# Altium footprint library Connector_PinHeader_1.27mm.PcbLib: 278 footprints (part 9 of 18)
Each footprint in its own frame and in the unit in brackets; x right, y up, seen from the top. Pads: shape width x height; smd on the part's side, far side on the other; paste and mask are expansions set on the pad; w line width, h text height; cw(c..) or ccw(c..) is an arc to the next point about the centre after c.
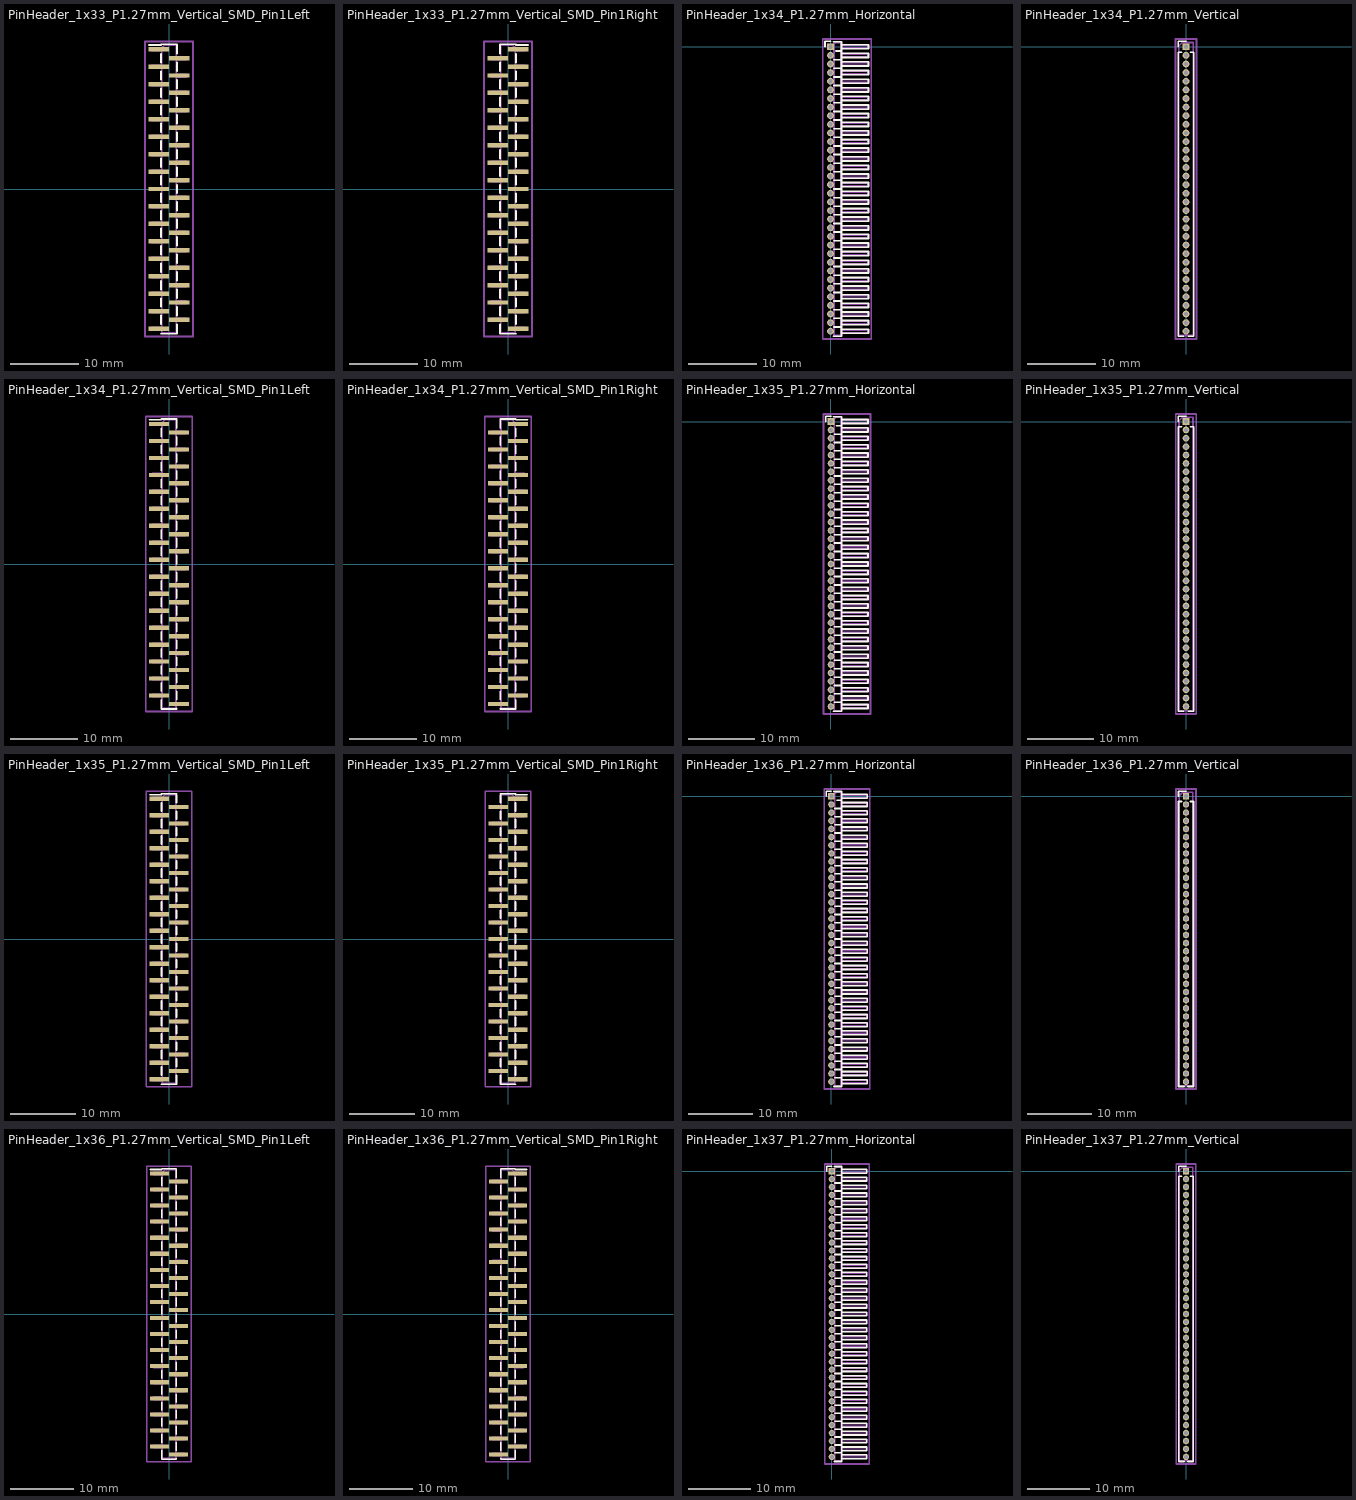
[diagram p8: the footprints below, top view; thin cyan lines are the x and y axes]

## PinHeader_1x33_P1.27mm_Vertical_SMD_Pin1Left [mm]
pads (33):
  rect 3x0.65 smd: 1(-1.5,20.32) 2(1.5,19.05) 3(-1.5,17.78) 4(1.5,16.51) 5(-1.5,15.24) 6(1.5,13.97) 7(-1.5,12.7) 8(1.5,11.43) 9(-1.5,10.16) 10(1.5,8.89) 11(-1.5,7.62) 12(1.5,6.35) 13(-1.5,5.08) 14(1.5,3.81) 15(-1.5,2.54) 16(1.5,1.27) 17(-1.5,0) 18(1.5,-1.27) 19(-1.5,-2.54) 20(1.5,-3.81) 21(-1.5,-5.08) 22(1.5,-6.35) 23(-1.5,-7.62) 24(1.5,-8.89) 25(-1.5,-10.16) 26(1.5,-11.43) 27(-1.5,-12.7) 28(1.5,-13.97) 29(-1.5,-15.24) 30(1.5,-16.51) 31(-1.5,-17.78) 32(1.5,-19.05) 33(-1.5,-20.32)
F.SilkS:
  lines w0.254: -2.94,20.955 -1.16,20.955 -1.16,21.065 1.16,21.065 ; -1.16,-21.065 1.16,-21.065 ; -1.16,-19.685 -1.16,-18.415 ; -1.16,-17.145 -1.16,-15.875 ; -1.16,-14.605 -1.16,-13.335 ; -1.16,-12.065 -1.16,-10.795 ; -1.16,-9.525 -1.16,-8.255 ; -1.16,-6.985 -1.16,-5.715 ; -1.16,-4.445 -1.16,-3.175 ; -1.16,-1.905 -1.16,-0.635 ; -1.16,0.635 -1.16,1.905 ; -1.16,3.175 -1.16,4.445 ; -1.16,5.715 -1.16,6.985 ; -1.16,8.255 -1.16,9.525 ; -1.16,10.795 -1.16,12.065 ; -1.16,13.335 -1.16,14.605 ; -1.16,15.875 -1.16,17.145 ; -1.16,18.415 -1.16,19.685 ; 1.16,-20.955 1.16,-21.065 ; 1.16,-19.685 1.16,-21.065 ; 1.16,-18.415 1.16,-17.145 ; 1.16,-15.875 1.16,-14.605 ; 1.16,-13.335 1.16,-12.065 ; 1.16,-10.795 1.16,-9.525 ; 1.16,-8.255 1.16,-6.985 ; 1.16,-5.715 1.16,-4.445 ; 1.16,-3.175 1.16,-1.905 ; 1.16,-0.635 1.16,0.635 ; 1.16,1.905 1.16,3.175 ; 1.16,4.445 1.16,5.715 ; 1.16,6.985 1.16,8.255 ; 1.16,9.525 1.16,10.795 ; 1.16,12.065 1.16,13.335 ; 1.16,14.605 1.16,15.875 ; 1.16,17.145 1.16,18.415 ; 1.16,19.685 1.16,20.955
Top Assembly:
  lines w0.254: -1.05,-20.52 -2.5,-20.52 -2.5,-20.12 -1.05,-20.12 ; -1.05,-17.98 -2.5,-17.98 -2.5,-17.58 -1.05,-17.58 ; -1.05,-15.44 -2.5,-15.44 -2.5,-15.04 -1.05,-15.04 ; -1.05,-12.9 -2.5,-12.9 -2.5,-12.5 -1.05,-12.5 ; -1.05,-10.36 -2.5,-10.36 -2.5,-9.96 -1.05,-9.96 ; -1.05,-7.82 -2.5,-7.82 -2.5,-7.42 -1.05,-7.42 ; -1.05,-5.28 -2.5,-5.28 -2.5,-4.88 -1.05,-4.88 ; -1.05,-2.74 -2.5,-2.74 -2.5,-2.34 -1.05,-2.34 ; -1.05,-0.2 -2.5,-0.2 -2.5,0.2 -1.05,0.2 ; -1.05,2.34 -2.5,2.34 -2.5,2.74 -1.05,2.74 ; -1.05,4.88 -2.5,4.88 -2.5,5.28 -1.05,5.28 ; -1.05,7.42 -2.5,7.42 -2.5,7.82 -1.05,7.82 ; -1.05,9.96 -2.5,9.96 -2.5,10.36 -1.05,10.36 ; -1.05,12.5 -2.5,12.5 -2.5,12.9 -1.05,12.9 ; -1.05,15.04 -2.5,15.04 -2.5,15.44 -1.05,15.44 ; -1.05,17.58 -2.5,17.58 -2.5,17.98 -1.05,17.98 ; -1.05,20.12 -2.5,20.12 -2.5,20.52 -1.05,20.52 ; 1.05,-19.25 2.5,-19.25 2.5,-18.85 1.05,-18.85 ; 1.05,-16.71 2.5,-16.71 2.5,-16.31 1.05,-16.31 ; 1.05,-14.17 2.5,-14.17 2.5,-13.77 1.05,-13.77 ; 1.05,-11.63 2.5,-11.63 2.5,-11.23 1.05,-11.23 ; 1.05,-9.09 2.5,-9.09 2.5,-8.69 1.05,-8.69 ; 1.05,-6.55 2.5,-6.55 2.5,-6.15 1.05,-6.15 ; 1.05,-4.01 2.5,-4.01 2.5,-3.61 1.05,-3.61 ; 1.05,-1.47 2.5,-1.47 2.5,-1.07 1.05,-1.07 ; 1.05,1.07 2.5,1.07 2.5,1.47 1.05,1.47 ; 1.05,3.61 2.5,3.61 2.5,4.01 1.05,4.01 ; 1.05,6.15 2.5,6.15 2.5,6.55 1.05,6.55 ; 1.05,8.69 2.5,8.69 2.5,9.09 1.05,9.09 ; 1.05,11.23 2.5,11.23 2.5,11.63 1.05,11.63 ; 1.05,13.77 2.5,13.77 2.5,14.17 1.05,14.17 ; 1.05,16.31 2.5,16.31 2.5,16.71 1.05,16.71 ; 1.05,18.85 2.5,18.85 2.5,19.25 1.05,19.25 ; -1.05,20.52 -1.05,-20.955 1.05,-20.955 1.05,20.955 -0.615,20.955 -1.05,20.52
  text "'.Designator'" at 0.84,-4.047 h1
Top Courtyard:
  lines w0.254: -3.5,-21.46 3.5,-21.46 3.5,21.46 -3.5,21.46 -3.5,-21.46
Top Designator:
  text ".Designator" at -7.618,-0.508 h1.52

## PinHeader_1x33_P1.27mm_Vertical_SMD_Pin1Right [mm]
pads (33):
  rect 3x0.65 smd: 1(1.5,20.32) 2(-1.5,19.05) 3(1.5,17.78) 4(-1.5,16.51) 5(1.5,15.24) 6(-1.5,13.97) 7(1.5,12.7) 8(-1.5,11.43) 9(1.5,10.16) 10(-1.5,8.89) 11(1.5,7.62) 12(-1.5,6.35) 13(1.5,5.08) 14(-1.5,3.81) 15(1.5,2.54) 16(-1.5,1.27) 17(1.5,0) 18(-1.5,-1.27) 19(1.5,-2.54) 20(-1.5,-3.81) 21(1.5,-5.08) 22(-1.5,-6.35) 23(1.5,-7.62) 24(-1.5,-8.89) 25(1.5,-10.16) 26(-1.5,-11.43) 27(1.5,-12.7) 28(-1.5,-13.97) 29(1.5,-15.24) 30(-1.5,-16.51) 31(1.5,-17.78) 32(-1.5,-19.05) 33(1.5,-20.32)
F.SilkS:
  lines w0.254: -1.16,-20.955 -1.16,-21.065 ; -1.16,-19.685 -1.16,-21.065 ; -1.16,-18.415 -1.16,-17.145 ; -1.16,-15.875 -1.16,-14.605 ; -1.16,-13.335 -1.16,-12.065 ; -1.16,-10.795 -1.16,-9.525 ; -1.16,-8.255 -1.16,-6.985 ; -1.16,-5.715 -1.16,-4.445 ; -1.16,-3.175 -1.16,-1.905 ; -1.16,-0.635 -1.16,0.635 ; -1.16,1.905 -1.16,3.175 ; -1.16,4.445 -1.16,5.715 ; -1.16,6.985 -1.16,8.255 ; -1.16,9.525 -1.16,10.795 ; -1.16,12.065 -1.16,13.335 ; -1.16,14.605 -1.16,15.875 ; -1.16,17.145 -1.16,18.415 ; -1.16,21.065 1.16,21.065 1.16,20.955 2.94,20.955 ; 1.16,-21.065 -1.16,-21.065 ; 1.16,-19.685 1.16,-18.415 ; 1.16,-17.145 1.16,-15.875 ; 1.16,-14.605 1.16,-13.335 ; 1.16,-12.065 1.16,-10.795 ; 1.16,-9.525 1.16,-8.255 ; 1.16,-6.985 1.16,-5.715 ; 1.16,-4.445 1.16,-3.175 ; 1.16,-1.905 1.16,-0.635 ; 1.16,0.635 1.16,1.905 ; 1.16,3.175 1.16,4.445 ; 1.16,5.715 1.16,6.985 ; 1.16,8.255 1.16,9.525 ; 1.16,10.795 1.16,12.065 ; 1.16,13.335 1.16,14.605 ; 1.16,15.875 1.16,17.145 ; 1.16,18.415 1.16,19.685 ; -1.16,19.685 -1.16,20.955 -1.16,19.685
Top Assembly:
  lines w0.254: -1.05,-19.25 -2.5,-19.25 -2.5,-18.85 -1.05,-18.85 ; -1.05,-16.71 -2.5,-16.71 -2.5,-16.31 -1.05,-16.31 ; -1.05,-14.17 -2.5,-14.17 -2.5,-13.77 -1.05,-13.77 ; -1.05,-11.63 -2.5,-11.63 -2.5,-11.23 -1.05,-11.23 ; -1.05,-9.09 -2.5,-9.09 -2.5,-8.69 -1.05,-8.69 ; -1.05,-6.55 -2.5,-6.55 -2.5,-6.15 -1.05,-6.15 ; -1.05,-4.01 -2.5,-4.01 -2.5,-3.61 -1.05,-3.61 ; -1.05,-1.47 -2.5,-1.47 -2.5,-1.07 -1.05,-1.07 ; -1.05,1.07 -2.5,1.07 -2.5,1.47 -1.05,1.47 ; -1.05,3.61 -2.5,3.61 -2.5,4.01 -1.05,4.01 ; -1.05,6.15 -2.5,6.15 -2.5,6.55 -1.05,6.55 ; -1.05,8.69 -2.5,8.69 -2.5,9.09 -1.05,9.09 ; -1.05,11.23 -2.5,11.23 -2.5,11.63 -1.05,11.63 ; -1.05,13.77 -2.5,13.77 -2.5,14.17 -1.05,14.17 ; -1.05,16.31 -2.5,16.31 -2.5,16.71 -1.05,16.71 ; -1.05,18.85 -2.5,18.85 -2.5,19.25 -1.05,19.25 ; 1.05,-20.52 2.5,-20.52 2.5,-20.12 1.05,-20.12 ; 1.05,-17.98 2.5,-17.98 2.5,-17.58 1.05,-17.58 ; 1.05,-15.44 2.5,-15.44 2.5,-15.04 1.05,-15.04 ; 1.05,-12.9 2.5,-12.9 2.5,-12.5 1.05,-12.5 ; 1.05,-10.36 2.5,-10.36 2.5,-9.96 1.05,-9.96 ; 1.05,-7.82 2.5,-7.82 2.5,-7.42 1.05,-7.42 ; 1.05,-5.28 2.5,-5.28 2.5,-4.88 1.05,-4.88 ; 1.05,-2.74 2.5,-2.74 2.5,-2.34 1.05,-2.34 ; 1.05,-0.2 2.5,-0.2 2.5,0.2 1.05,0.2 ; 1.05,2.34 2.5,2.34 2.5,2.74 1.05,2.74 ; 1.05,4.88 2.5,4.88 2.5,5.28 1.05,5.28 ; 1.05,7.42 2.5,7.42 2.5,7.82 1.05,7.82 ; 1.05,9.96 2.5,9.96 2.5,10.36 1.05,10.36 ; 1.05,12.5 2.5,12.5 2.5,12.9 1.05,12.9 ; 1.05,15.04 2.5,15.04 2.5,15.44 1.05,15.44 ; 1.05,17.58 2.5,17.58 2.5,17.98 1.05,17.98 ; 1.05,20.12 2.5,20.12 2.5,20.52 1.05,20.52 ; 1.05,20.52 1.05,-20.955 -1.05,-20.955 -1.05,20.955 0.615,20.955 1.05,20.52
  text "'.Designator'" at 0.84,-4.047 h1
Top Courtyard:
  lines w0.254: -3.5,-21.46 3.5,-21.46 3.5,21.46 -3.5,21.46 -3.5,-21.46
Top Designator:
  text ".Designator" at -7.618,-0.508 h1.52

## PinHeader_1x34_P1.27mm_Horizontal [mm]
pads (34):
  rect 1x1 hole 0.65: 1(0,0)
  round 1 hole 0.65: 2(0,-1.27) 3(0,-2.54) 4(0,-3.81) 5(0,-5.08) 6(0,-6.35) 7(0,-7.62) 8(0,-8.89) 9(0,-10.16) 10(0,-11.43) 11(0,-12.7) 12(0,-13.97) 13(0,-15.24) 14(0,-16.51) 15(0,-17.78) 16(0,-19.05) 17(0,-20.32) 18(0,-21.59) 19(0,-22.86) 20(0,-24.13) 21(0,-25.4) 22(0,-26.67) 23(0,-27.94) 24(0,-29.21) 25(0,-30.48) 26(0,-31.75) 27(0,-33.02) 28(0,-34.29) 29(0,-35.56) 30(0,-36.83) 31(0,-38.1) 32(0,-39.37) 33(0,-40.64) 34(0,-41.91)
F.SilkS:
  lines w0.254: -0.81,0 -0.81,0.81 0,0.81 ; 0.39,-42.655 1.61,-42.655 1.61,0.745 0.39,0.745 ; 0.503,-41.275 1.61,-41.275 ; 0.503,-40.005 1.61,-40.005 ; 0.503,-38.735 1.61,-38.735 ; 0.503,-37.465 1.61,-37.465 ; 0.503,-36.195 1.61,-36.195 ; 0.503,-34.925 1.61,-34.925 ; 0.503,-33.655 1.61,-33.655 ; 0.503,-32.385 1.61,-32.385 ; 0.503,-31.115 1.61,-31.115 ; 0.503,-29.845 1.61,-29.845 ; 0.503,-28.575 1.61,-28.575 ; 0.503,-27.305 1.61,-27.305 ; 0.503,-26.035 1.61,-26.035 ; 0.503,-24.765 1.61,-24.765 ; 0.503,-23.495 1.61,-23.495 ; 0.503,-22.225 1.61,-22.225 ; 0.503,-20.955 1.61,-20.955 ; 0.503,-19.685 1.61,-19.685 ; 0.503,-18.415 1.61,-18.415 ; 0.503,-17.145 1.61,-17.145 ; 0.503,-15.875 1.61,-15.875 ; 0.503,-14.605 1.61,-14.605 ; 0.503,-13.335 1.61,-13.335 ; 0.503,-12.065 1.61,-12.065 ; 0.503,-10.795 1.61,-10.795 ; 0.503,-9.525 1.61,-9.525 ; 0.503,-8.255 1.61,-8.255 ; 0.503,-6.985 1.61,-6.985 ; 0.503,-5.715 1.61,-5.715 ; 0.503,-4.445 1.61,-4.445 ; 0.503,-3.175 1.61,-3.175 ; 0.503,-1.905 1.61,-1.905 ; 0.81,-0.635 1.61,-0.635 ; 1.61,-42.22 5.61,-42.22 5.61,-41.6 1.61,-41.6 ; 1.61,-40.95 5.61,-40.95 5.61,-40.33 1.61,-40.33 ; 1.61,-39.68 5.61,-39.68 5.61,-39.06 1.61,-39.06 ; 1.61,-38.41 5.61,-38.41 5.61,-37.79 1.61,-37.79 ; 1.61,-37.14 5.61,-37.14 5.61,-36.52 1.61,-36.52 ; 1.61,-35.87 5.61,-35.87 5.61,-35.25 1.61,-35.25 ; 1.61,-34.6 5.61,-34.6 5.61,-33.98 1.61,-33.98 ; 1.61,-33.33 5.61,-33.33 5.61,-32.71 1.61,-32.71 ; 1.61,-32.06 5.61,-32.06 5.61,-31.44 1.61,-31.44 ; 1.61,-30.79 5.61,-30.79 5.61,-30.17 1.61,-30.17 ; 1.61,-29.52 5.61,-29.52 5.61,-28.9 1.61,-28.9 ; 1.61,-28.25 5.61,-28.25 5.61,-27.63 1.61,-27.63 ; 1.61,-26.98 5.61,-26.98 5.61,-26.36 1.61,-26.36 ; 1.61,-25.71 5.61,-25.71 5.61,-25.09 1.61,-25.09 ; 1.61,-24.44 5.61,-24.44 5.61,-23.82 1.61,-23.82 ; 1.61,-23.17 5.61,-23.17 5.61,-22.55 1.61,-22.55 ; 1.61,-21.9 5.61,-21.9 5.61,-21.28 1.61,-21.28 ; 1.61,-20.63 5.61,-20.63 5.61,-20.01 1.61,-20.01 ; 1.61,-19.36 5.61,-19.36 5.61,-18.74 1.61,-18.74 ; 1.61,-18.09 5.61,-18.09 5.61,-17.47 1.61,-17.47 ; 1.61,-16.82 5.61,-16.82 5.61,-16.2 1.61,-16.2 ; 1.61,-15.55 5.61,-15.55 5.61,-14.93 1.61,-14.93 ; 1.61,-14.28 5.61,-14.28 5.61,-13.66 1.61,-13.66 ; 1.61,-13.01 5.61,-13.01 5.61,-12.39 1.61,-12.39 ; 1.61,-11.74 5.61,-11.74 5.61,-11.12 1.61,-11.12 ; 1.61,-10.47 5.61,-10.47 5.61,-9.85 1.61,-9.85 ; 1.61,-9.2 5.61,-9.2 5.61,-8.58 1.61,-8.58 ; 1.61,-7.93 5.61,-7.93 5.61,-7.31 1.61,-7.31 ; 1.61,-6.66 5.61,-6.66 5.61,-6.04 1.61,-6.04 ; 1.61,-5.39 5.61,-5.39 5.61,-4.77 1.61,-4.77 ; 1.61,-4.12 5.61,-4.12 5.61,-3.5 1.61,-3.5 ; 1.61,-2.85 5.61,-2.85 5.61,-2.23 1.61,-2.23 ; 1.61,-1.58 5.61,-1.58 5.61,-0.96 1.61,-0.96 ; 1.61,-0.31 5.61,-0.31 5.61,0.31 1.61,0.31 1.61,-0.31
Top Assembly:
  drawing of 209 lines, arcs and shapes, not listed
  text "'.Designator'" at 1.504,-23.383 h0.6
Top Courtyard:
  lines w0.254: -1.14,-43.05 6,-43.05 6,1.14 -1.14,1.14 -1.14,-43.05
Top Designator:
  text ".Designator" at -5.188,-21.463 h1.52

## PinHeader_1x34_P1.27mm_Vertical [mm]
pads (34):
  rect 1x1 hole 0.65: 1(0,0)
  round 1 hole 0.65: 2(0,-1.27) 3(0,-2.54) 4(0,-3.81) 5(0,-5.08) 6(0,-6.35) 7(0,-7.62) 8(0,-8.89) 9(0,-10.16) 10(0,-11.43) 11(0,-12.7) 12(0,-13.97) 13(0,-15.24) 14(0,-16.51) 15(0,-17.78) 16(0,-19.05) 17(0,-20.32) 18(0,-21.59) 19(0,-22.86) 20(0,-24.13) 21(0,-25.4) 22(0,-26.67) 23(0,-27.94) 24(0,-29.21) 25(0,-30.48) 26(0,-31.75) 27(0,-33.02) 28(0,-34.29) 29(0,-35.56) 30(0,-36.83) 31(0,-38.1) 32(0,-39.37) 33(0,-40.64) 34(0,-41.91)
F.SilkS:
  lines w0.254: -1.16,0 -1.16,0.81 0,0.81 ; -0.667,-0.81 -1.16,-0.81 -1.16,-42.655 -0.318,-42.655 ; 0.318,-42.655 1.16,-42.655 1.16,-0.81 0.667,-0.81
Top Assembly:
  lines w0.254: -1.05,-42.545 1.05,-42.545 1.05,0.635 -0.525,0.635 -1.05,0.11 -1.05,-42.545
  text "'.Designator'" at 0.84,-25.002 h1
Top Courtyard:
  lines w0.254: -1.55,-43.05 1.55,-43.05 1.55,1.14 -1.55,1.14 -1.55,-43.05
Top Designator:
  text ".Designator" at -7.618,-21.463 h1.52

## PinHeader_1x34_P1.27mm_Vertical_SMD_Pin1Left [mm]
pads (34):
  rect 3x0.65 smd: 1(-1.5,20.955) 2(1.5,19.685) 3(-1.5,18.415) 4(1.5,17.145) 5(-1.5,15.875) 6(1.5,14.605) 7(-1.5,13.335) 8(1.5,12.065) 9(-1.5,10.795) 10(1.5,9.525) 11(-1.5,8.255) 12(1.5,6.985) 13(-1.5,5.715) 14(1.5,4.445) 15(-1.5,3.175) 16(1.5,1.905) 17(-1.5,0.635) 18(1.5,-0.635) 19(-1.5,-1.905) 20(1.5,-3.175) 21(-1.5,-4.445) 22(1.5,-5.715) 23(-1.5,-6.985) 24(1.5,-8.255) 25(-1.5,-9.525) 26(1.5,-10.795) 27(-1.5,-12.065) 28(1.5,-13.335) 29(-1.5,-14.605) 30(1.5,-15.875) 31(-1.5,-17.145) 32(1.5,-18.415) 33(-1.5,-19.685) 34(1.5,-20.955)
F.SilkS:
  lines w0.254: -2.94,21.59 -1.16,21.59 -1.16,21.7 1.16,21.7 ; -1.16,-20.32 -1.16,-21.7 1.16,-21.7 1.16,-21.59 ; -1.16,-19.05 -1.16,-17.78 ; -1.16,-16.51 -1.16,-15.24 ; -1.16,-13.97 -1.16,-12.7 ; -1.16,-11.43 -1.16,-10.16 ; -1.16,-8.89 -1.16,-7.62 ; -1.16,-6.35 -1.16,-5.08 ; -1.16,-3.81 -1.16,-2.54 ; -1.16,-1.27 -1.16,0 ; -1.16,1.27 -1.16,2.54 ; -1.16,3.81 -1.16,5.08 ; -1.16,6.35 -1.16,7.62 ; -1.16,8.89 -1.16,10.16 ; -1.16,11.43 -1.16,12.7 ; -1.16,13.97 -1.16,15.24 ; -1.16,16.51 -1.16,17.78 ; -1.16,19.05 -1.16,20.32 ; 1.16,-20.32 1.16,-19.05 ; 1.16,-17.78 1.16,-16.51 ; 1.16,-15.24 1.16,-13.97 ; 1.16,-12.7 1.16,-11.43 ; 1.16,-10.16 1.16,-8.89 ; 1.16,-7.62 1.16,-6.35 ; 1.16,-5.08 1.16,-3.81 ; 1.16,-2.54 1.16,-1.27 ; 1.16,0 1.16,1.27 ; 1.16,2.54 1.16,3.81 ; 1.16,5.08 1.16,6.35 ; 1.16,7.62 1.16,8.89 ; 1.16,10.16 1.16,11.43 ; 1.16,12.7 1.16,13.97 ; 1.16,15.24 1.16,16.51 ; 1.16,17.78 1.16,19.05 ; 1.16,20.32 1.16,21.59
Top Assembly:
  lines w0.254: -1.05,-19.885 -2.5,-19.885 -2.5,-19.485 -1.05,-19.485 ; -1.05,-17.345 -2.5,-17.345 -2.5,-16.945 -1.05,-16.945 ; -1.05,-14.805 -2.5,-14.805 -2.5,-14.405 -1.05,-14.405 ; -1.05,-12.265 -2.5,-12.265 -2.5,-11.865 -1.05,-11.865 ; -1.05,-9.725 -2.5,-9.725 -2.5,-9.325 -1.05,-9.325 ; -1.05,-7.185 -2.5,-7.185 -2.5,-6.785 -1.05,-6.785 ; -1.05,-4.645 -2.5,-4.645 -2.5,-4.245 -1.05,-4.245 ; -1.05,-2.105 -2.5,-2.105 -2.5,-1.705 -1.05,-1.705 ; -1.05,0.435 -2.5,0.435 -2.5,0.835 -1.05,0.835 ; -1.05,2.975 -2.5,2.975 -2.5,3.375 -1.05,3.375 ; -1.05,5.515 -2.5,5.515 -2.5,5.915 -1.05,5.915 ; -1.05,8.055 -2.5,8.055 -2.5,8.455 -1.05,8.455 ; -1.05,10.595 -2.5,10.595 -2.5,10.995 -1.05,10.995 ; -1.05,13.135 -2.5,13.135 -2.5,13.535 -1.05,13.535 ; -1.05,15.675 -2.5,15.675 -2.5,16.075 -1.05,16.075 ; -1.05,18.215 -2.5,18.215 -2.5,18.615 -1.05,18.615 ; -1.05,20.755 -2.5,20.755 -2.5,21.155 -1.05,21.155 ; 1.05,-21.155 2.5,-21.155 2.5,-20.755 1.05,-20.755 ; 1.05,-18.615 2.5,-18.615 2.5,-18.215 1.05,-18.215 ; 1.05,-16.075 2.5,-16.075 2.5,-15.675 1.05,-15.675 ; 1.05,-13.535 2.5,-13.535 2.5,-13.135 1.05,-13.135 ; 1.05,-10.995 2.5,-10.995 2.5,-10.595 1.05,-10.595 ; 1.05,-8.455 2.5,-8.455 2.5,-8.055 1.05,-8.055 ; 1.05,-5.915 2.5,-5.915 2.5,-5.515 1.05,-5.515 ; 1.05,-3.375 2.5,-3.375 2.5,-2.975 1.05,-2.975 ; 1.05,-0.835 2.5,-0.835 2.5,-0.435 1.05,-0.435 ; 1.05,1.705 2.5,1.705 2.5,2.105 1.05,2.105 ; 1.05,4.245 2.5,4.245 2.5,4.645 1.05,4.645 ; 1.05,6.785 2.5,6.785 2.5,7.185 1.05,7.185 ; 1.05,9.325 2.5,9.325 2.5,9.725 1.05,9.725 ; 1.05,11.865 2.5,11.865 2.5,12.265 1.05,12.265 ; 1.05,14.405 2.5,14.405 2.5,14.805 1.05,14.805 ; 1.05,16.945 2.5,16.945 2.5,17.345 1.05,17.345 ; 1.05,19.485 2.5,19.485 2.5,19.885 1.05,19.885 ; -1.05,21.155 -1.05,-21.59 1.05,-21.59 1.05,21.59 -0.615,21.59 -1.05,21.155
  text "'.Designator'" at 0.84,-4.047 h1
Top Courtyard:
  lines w0.254: -3.5,-22.09 3.5,-22.09 3.5,22.09 -3.5,22.09 -3.5,-22.09
Top Designator:
  text ".Designator" at -7.618,-0.508 h1.52

## PinHeader_1x34_P1.27mm_Vertical_SMD_Pin1Right [mm]
pads (34):
  rect 3x0.65 smd: 1(1.5,20.955) 2(-1.5,19.685) 3(1.5,18.415) 4(-1.5,17.145) 5(1.5,15.875) 6(-1.5,14.605) 7(1.5,13.335) 8(-1.5,12.065) 9(1.5,10.795) 10(-1.5,9.525) 11(1.5,8.255) 12(-1.5,6.985) 13(1.5,5.715) 14(-1.5,4.445) 15(1.5,3.175) 16(-1.5,1.905) 17(1.5,0.635) 18(-1.5,-0.635) 19(1.5,-1.905) 20(-1.5,-3.175) 21(1.5,-4.445) 22(-1.5,-5.715) 23(1.5,-6.985) 24(-1.5,-8.255) 25(1.5,-9.525) 26(-1.5,-10.795) 27(1.5,-12.065) 28(-1.5,-13.335) 29(1.5,-14.605) 30(-1.5,-15.875) 31(1.5,-17.145) 32(-1.5,-18.415) 33(1.5,-19.685) 34(-1.5,-20.955)
F.SilkS:
  lines w0.254: -1.16,-21.59 -1.16,-21.7 1.16,-21.7 1.16,-20.32 ; -1.16,-20.32 -1.16,-19.05 ; -1.16,-17.78 -1.16,-16.51 ; -1.16,-15.24 -1.16,-13.97 ; -1.16,-12.7 -1.16,-11.43 ; -1.16,-10.16 -1.16,-8.89 ; -1.16,-7.62 -1.16,-6.35 ; -1.16,-5.08 -1.16,-3.81 ; -1.16,-2.54 -1.16,-1.27 ; -1.16,0 -1.16,1.27 ; -1.16,2.54 -1.16,3.81 ; -1.16,5.08 -1.16,6.35 ; -1.16,7.62 -1.16,8.89 ; -1.16,10.16 -1.16,11.43 ; -1.16,12.7 -1.16,13.97 ; -1.16,15.24 -1.16,16.51 ; -1.16,17.78 -1.16,19.05 ; -1.16,21.7 1.16,21.7 1.16,21.59 2.94,21.59 ; 1.16,-19.05 1.16,-17.78 ; 1.16,-16.51 1.16,-15.24 ; 1.16,-13.97 1.16,-12.7 ; 1.16,-11.43 1.16,-10.16 ; 1.16,-8.89 1.16,-7.62 ; 1.16,-6.35 1.16,-5.08 ; 1.16,-3.81 1.16,-2.54 ; 1.16,-1.27 1.16,0 ; 1.16,1.27 1.16,2.54 ; 1.16,3.81 1.16,5.08 ; 1.16,6.35 1.16,7.62 ; 1.16,8.89 1.16,10.16 ; 1.16,11.43 1.16,12.7 ; 1.16,13.97 1.16,15.24 ; 1.16,16.51 1.16,17.78 ; 1.16,19.05 1.16,20.32 ; -1.16,20.32 -1.16,21.59 -1.16,20.32
Top Assembly:
  lines w0.254: -1.05,-21.155 -2.5,-21.155 -2.5,-20.755 -1.05,-20.755 ; -1.05,-18.615 -2.5,-18.615 -2.5,-18.215 -1.05,-18.215 ; -1.05,-16.075 -2.5,-16.075 -2.5,-15.675 -1.05,-15.675 ; -1.05,-13.535 -2.5,-13.535 -2.5,-13.135 -1.05,-13.135 ; -1.05,-10.995 -2.5,-10.995 -2.5,-10.595 -1.05,-10.595 ; -1.05,-8.455 -2.5,-8.455 -2.5,-8.055 -1.05,-8.055 ; -1.05,-5.915 -2.5,-5.915 -2.5,-5.515 -1.05,-5.515 ; -1.05,-3.375 -2.5,-3.375 -2.5,-2.975 -1.05,-2.975 ; -1.05,-0.835 -2.5,-0.835 -2.5,-0.435 -1.05,-0.435 ; -1.05,1.705 -2.5,1.705 -2.5,2.105 -1.05,2.105 ; -1.05,4.245 -2.5,4.245 -2.5,4.645 -1.05,4.645 ; -1.05,6.785 -2.5,6.785 -2.5,7.185 -1.05,7.185 ; -1.05,9.325 -2.5,9.325 -2.5,9.725 -1.05,9.725 ; -1.05,11.865 -2.5,11.865 -2.5,12.265 -1.05,12.265 ; -1.05,14.405 -2.5,14.405 -2.5,14.805 -1.05,14.805 ; -1.05,16.945 -2.5,16.945 -2.5,17.345 -1.05,17.345 ; -1.05,19.485 -2.5,19.485 -2.5,19.885 -1.05,19.885 ; 1.05,-19.885 2.5,-19.885 2.5,-19.485 1.05,-19.485 ; 1.05,-17.345 2.5,-17.345 2.5,-16.945 1.05,-16.945 ; 1.05,-14.805 2.5,-14.805 2.5,-14.405 1.05,-14.405 ; 1.05,-12.265 2.5,-12.265 2.5,-11.865 1.05,-11.865 ; 1.05,-9.725 2.5,-9.725 2.5,-9.325 1.05,-9.325 ; 1.05,-7.185 2.5,-7.185 2.5,-6.785 1.05,-6.785 ; 1.05,-4.645 2.5,-4.645 2.5,-4.245 1.05,-4.245 ; 1.05,-2.105 2.5,-2.105 2.5,-1.705 1.05,-1.705 ; 1.05,0.435 2.5,0.435 2.5,0.835 1.05,0.835 ; 1.05,2.975 2.5,2.975 2.5,3.375 1.05,3.375 ; 1.05,5.515 2.5,5.515 2.5,5.915 1.05,5.915 ; 1.05,8.055 2.5,8.055 2.5,8.455 1.05,8.455 ; 1.05,10.595 2.5,10.595 2.5,10.995 1.05,10.995 ; 1.05,13.135 2.5,13.135 2.5,13.535 1.05,13.535 ; 1.05,15.675 2.5,15.675 2.5,16.075 1.05,16.075 ; 1.05,18.215 2.5,18.215 2.5,18.615 1.05,18.615 ; 1.05,20.755 2.5,20.755 2.5,21.155 1.05,21.155 ; 1.05,21.155 1.05,-21.59 -1.05,-21.59 -1.05,21.59 0.615,21.59 1.05,21.155
  text "'.Designator'" at 0.84,-4.047 h1
Top Courtyard:
  lines w0.254: -3.5,-22.09 3.5,-22.09 3.5,22.09 -3.5,22.09 -3.5,-22.09
Top Designator:
  text ".Designator" at -7.618,-0.508 h1.52

## PinHeader_1x35_P1.27mm_Horizontal [mm]
pads (35):
  rect 1x1 hole 0.65: 1(0,0)
  round 1 hole 0.65: 2(0,-1.27) 3(0,-2.54) 4(0,-3.81) 5(0,-5.08) 6(0,-6.35) 7(0,-7.62) 8(0,-8.89) 9(0,-10.16) 10(0,-11.43) 11(0,-12.7) 12(0,-13.97) 13(0,-15.24) 14(0,-16.51) 15(0,-17.78) 16(0,-19.05) 17(0,-20.32) 18(0,-21.59) 19(0,-22.86) 20(0,-24.13) 21(0,-25.4) 22(0,-26.67) 23(0,-27.94) 24(0,-29.21) 25(0,-30.48) 26(0,-31.75) 27(0,-33.02) 28(0,-34.29) 29(0,-35.56) 30(0,-36.83) 31(0,-38.1) 32(0,-39.37) 33(0,-40.64) 34(0,-41.91) 35(0,-43.18)
F.SilkS:
  lines w0.254: -0.81,0 -0.81,0.81 0,0.81 ; 0.39,-43.925 1.61,-43.925 1.61,0.745 0.39,0.745 ; 0.503,-42.545 1.61,-42.545 ; 0.503,-41.275 1.61,-41.275 ; 0.503,-40.005 1.61,-40.005 ; 0.503,-38.735 1.61,-38.735 ; 0.503,-37.465 1.61,-37.465 ; 0.503,-36.195 1.61,-36.195 ; 0.503,-34.925 1.61,-34.925 ; 0.503,-33.655 1.61,-33.655 ; 0.503,-32.385 1.61,-32.385 ; 0.503,-31.115 1.61,-31.115 ; 0.503,-29.845 1.61,-29.845 ; 0.503,-28.575 1.61,-28.575 ; 0.503,-27.305 1.61,-27.305 ; 0.503,-26.035 1.61,-26.035 ; 0.503,-24.765 1.61,-24.765 ; 0.503,-23.495 1.61,-23.495 ; 0.503,-22.225 1.61,-22.225 ; 0.503,-20.955 1.61,-20.955 ; 0.503,-19.685 1.61,-19.685 ; 0.503,-18.415 1.61,-18.415 ; 0.503,-17.145 1.61,-17.145 ; 0.503,-15.875 1.61,-15.875 ; 0.503,-14.605 1.61,-14.605 ; 0.503,-13.335 1.61,-13.335 ; 0.503,-12.065 1.61,-12.065 ; 0.503,-10.795 1.61,-10.795 ; 0.503,-9.525 1.61,-9.525 ; 0.503,-8.255 1.61,-8.255 ; 0.503,-6.985 1.61,-6.985 ; 0.503,-5.715 1.61,-5.715 ; 0.503,-4.445 1.61,-4.445 ; 0.503,-3.175 1.61,-3.175 ; 0.503,-1.905 1.61,-1.905 ; 0.81,-0.635 1.61,-0.635 ; 1.61,-43.49 5.61,-43.49 5.61,-42.87 1.61,-42.87 ; 1.61,-42.22 5.61,-42.22 5.61,-41.6 1.61,-41.6 ; 1.61,-40.95 5.61,-40.95 5.61,-40.33 1.61,-40.33 ; 1.61,-39.68 5.61,-39.68 5.61,-39.06 1.61,-39.06 ; 1.61,-38.41 5.61,-38.41 5.61,-37.79 1.61,-37.79 ; 1.61,-37.14 5.61,-37.14 5.61,-36.52 1.61,-36.52 ; 1.61,-35.87 5.61,-35.87 5.61,-35.25 1.61,-35.25 ; 1.61,-34.6 5.61,-34.6 5.61,-33.98 1.61,-33.98 ; 1.61,-33.33 5.61,-33.33 5.61,-32.71 1.61,-32.71 ; 1.61,-32.06 5.61,-32.06 5.61,-31.44 1.61,-31.44 ; 1.61,-30.79 5.61,-30.79 5.61,-30.17 1.61,-30.17 ; 1.61,-29.52 5.61,-29.52 5.61,-28.9 1.61,-28.9 ; 1.61,-28.25 5.61,-28.25 5.61,-27.63 1.61,-27.63 ; 1.61,-26.98 5.61,-26.98 5.61,-26.36 1.61,-26.36 ; 1.61,-25.71 5.61,-25.71 5.61,-25.09 1.61,-25.09 ; 1.61,-24.44 5.61,-24.44 5.61,-23.82 1.61,-23.82 ; 1.61,-23.17 5.61,-23.17 5.61,-22.55 1.61,-22.55 ; 1.61,-21.9 5.61,-21.9 5.61,-21.28 1.61,-21.28 ; 1.61,-20.63 5.61,-20.63 5.61,-20.01 1.61,-20.01 ; 1.61,-19.36 5.61,-19.36 5.61,-18.74 1.61,-18.74 ; 1.61,-18.09 5.61,-18.09 5.61,-17.47 1.61,-17.47 ; 1.61,-16.82 5.61,-16.82 5.61,-16.2 1.61,-16.2 ; 1.61,-15.55 5.61,-15.55 5.61,-14.93 1.61,-14.93 ; 1.61,-14.28 5.61,-14.28 5.61,-13.66 1.61,-13.66 ; 1.61,-13.01 5.61,-13.01 5.61,-12.39 1.61,-12.39 ; 1.61,-11.74 5.61,-11.74 5.61,-11.12 1.61,-11.12 ; 1.61,-10.47 5.61,-10.47 5.61,-9.85 1.61,-9.85 ; 1.61,-9.2 5.61,-9.2 5.61,-8.58 1.61,-8.58 ; 1.61,-7.93 5.61,-7.93 5.61,-7.31 1.61,-7.31 ; 1.61,-6.66 5.61,-6.66 5.61,-6.04 1.61,-6.04 ; 1.61,-5.39 5.61,-5.39 5.61,-4.77 1.61,-4.77 ; 1.61,-4.12 5.61,-4.12 5.61,-3.5 1.61,-3.5 ; 1.61,-2.85 5.61,-2.85 5.61,-2.23 1.61,-2.23 ; 1.61,-1.58 5.61,-1.58 5.61,-0.96 1.61,-0.96 ; 1.61,-0.31 5.61,-0.31 5.61,0.31 1.61,0.31 1.61,-0.31
Top Assembly:
  drawing of 215 lines, arcs and shapes, not listed
  text "'.Designator'" at 1.504,-24.018 h0.6
Top Courtyard:
  lines w0.254: -1.14,-44.32 6,-44.32 6,1.14 -1.14,1.14 -1.14,-44.32
Top Designator:
  text ".Designator" at -5.188,-22.098 h1.52

## PinHeader_1x35_P1.27mm_Vertical [mm]
pads (35):
  rect 1x1 hole 0.65: 1(0,0)
  round 1 hole 0.65: 2(0,-1.27) 3(0,-2.54) 4(0,-3.81) 5(0,-5.08) 6(0,-6.35) 7(0,-7.62) 8(0,-8.89) 9(0,-10.16) 10(0,-11.43) 11(0,-12.7) 12(0,-13.97) 13(0,-15.24) 14(0,-16.51) 15(0,-17.78) 16(0,-19.05) 17(0,-20.32) 18(0,-21.59) 19(0,-22.86) 20(0,-24.13) 21(0,-25.4) 22(0,-26.67) 23(0,-27.94) 24(0,-29.21) 25(0,-30.48) 26(0,-31.75) 27(0,-33.02) 28(0,-34.29) 29(0,-35.56) 30(0,-36.83) 31(0,-38.1) 32(0,-39.37) 33(0,-40.64) 34(0,-41.91) 35(0,-43.18)
F.SilkS:
  lines w0.254: -1.16,0 -1.16,0.81 0,0.81 ; -0.667,-0.81 -1.16,-0.81 -1.16,-43.925 -0.318,-43.925 ; 0.318,-43.925 1.16,-43.925 1.16,-0.81 0.667,-0.81
Top Assembly:
  lines w0.254: -1.05,-43.815 1.05,-43.815 1.05,0.635 -0.525,0.635 -1.05,0.11 -1.05,-43.815
  text "'.Designator'" at 0.84,-25.637 h1
Top Courtyard:
  lines w0.254: -1.55,-44.32 1.55,-44.32 1.55,1.14 -1.55,1.14 -1.55,-44.32
Top Designator:
  text ".Designator" at -7.618,-22.098 h1.52

## PinHeader_1x35_P1.27mm_Vertical_SMD_Pin1Left [mm]
pads (35):
  rect 3x0.65 smd: 1(-1.5,21.59) 2(1.5,20.32) 3(-1.5,19.05) 4(1.5,17.78) 5(-1.5,16.51) 6(1.5,15.24) 7(-1.5,13.97) 8(1.5,12.7) 9(-1.5,11.43) 10(1.5,10.16) 11(-1.5,8.89) 12(1.5,7.62) 13(-1.5,6.35) 14(1.5,5.08) 15(-1.5,3.81) 16(1.5,2.54) 17(-1.5,1.27) 18(1.5,0) 19(-1.5,-1.27) 20(1.5,-2.54) 21(-1.5,-3.81) 22(1.5,-5.08) 23(-1.5,-6.35) 24(1.5,-7.62) 25(-1.5,-8.89) 26(1.5,-10.16) 27(-1.5,-11.43) 28(1.5,-12.7) 29(-1.5,-13.97) 30(1.5,-15.24) 31(-1.5,-16.51) 32(1.5,-17.78) 33(-1.5,-19.05) 34(1.5,-20.32) 35(-1.5,-21.59)
F.SilkS:
  lines w0.254: -2.94,22.225 -1.16,22.225 -1.16,22.335 1.16,22.335 ; -1.16,-22.335 1.16,-22.335 ; -1.16,-20.955 -1.16,-19.685 ; -1.16,-18.415 -1.16,-17.145 ; -1.16,-15.875 -1.16,-14.605 ; -1.16,-13.335 -1.16,-12.065 ; -1.16,-10.795 -1.16,-9.525 ; -1.16,-8.255 -1.16,-6.985 ; -1.16,-5.715 -1.16,-4.445 ; -1.16,-3.175 -1.16,-1.905 ; -1.16,-0.635 -1.16,0.635 ; -1.16,1.905 -1.16,3.175 ; -1.16,4.445 -1.16,5.715 ; -1.16,6.985 -1.16,8.255 ; -1.16,9.525 -1.16,10.795 ; -1.16,12.065 -1.16,13.335 ; -1.16,14.605 -1.16,15.875 ; -1.16,17.145 -1.16,18.415 ; -1.16,19.685 -1.16,20.955 ; 1.16,-22.225 1.16,-22.335 ; 1.16,-20.955 1.16,-22.335 ; 1.16,-19.685 1.16,-18.415 ; 1.16,-17.145 1.16,-15.875 ; 1.16,-14.605 1.16,-13.335 ; 1.16,-12.065 1.16,-10.795 ; 1.16,-9.525 1.16,-8.255 ; 1.16,-6.985 1.16,-5.715 ; 1.16,-4.445 1.16,-3.175 ; 1.16,-1.905 1.16,-0.635 ; 1.16,0.635 1.16,1.905 ; 1.16,3.175 1.16,4.445 ; 1.16,5.715 1.16,6.985 ; 1.16,8.255 1.16,9.525 ; 1.16,10.795 1.16,12.065 ; 1.16,13.335 1.16,14.605 ; 1.16,15.875 1.16,17.145 ; 1.16,18.415 1.16,19.685 ; 1.16,20.955 1.16,22.225
Top Assembly:
  lines w0.254: -1.05,-21.79 -2.5,-21.79 -2.5,-21.39 -1.05,-21.39 ; -1.05,-19.25 -2.5,-19.25 -2.5,-18.85 -1.05,-18.85 ; -1.05,-16.71 -2.5,-16.71 -2.5,-16.31 -1.05,-16.31 ; -1.05,-14.17 -2.5,-14.17 -2.5,-13.77 -1.05,-13.77 ; -1.05,-11.63 -2.5,-11.63 -2.5,-11.23 -1.05,-11.23 ; -1.05,-9.09 -2.5,-9.09 -2.5,-8.69 -1.05,-8.69 ; -1.05,-6.55 -2.5,-6.55 -2.5,-6.15 -1.05,-6.15 ; -1.05,-4.01 -2.5,-4.01 -2.5,-3.61 -1.05,-3.61 ; -1.05,-1.47 -2.5,-1.47 -2.5,-1.07 -1.05,-1.07 ; -1.05,1.07 -2.5,1.07 -2.5,1.47 -1.05,1.47 ; -1.05,3.61 -2.5,3.61 -2.5,4.01 -1.05,4.01 ; -1.05,6.15 -2.5,6.15 -2.5,6.55 -1.05,6.55 ; -1.05,8.69 -2.5,8.69 -2.5,9.09 -1.05,9.09 ; -1.05,11.23 -2.5,11.23 -2.5,11.63 -1.05,11.63 ; -1.05,13.77 -2.5,13.77 -2.5,14.17 -1.05,14.17 ; -1.05,16.31 -2.5,16.31 -2.5,16.71 -1.05,16.71 ; -1.05,18.85 -2.5,18.85 -2.5,19.25 -1.05,19.25 ; -1.05,21.39 -2.5,21.39 -2.5,21.79 -1.05,21.79 ; 1.05,-20.52 2.5,-20.52 2.5,-20.12 1.05,-20.12 ; 1.05,-17.98 2.5,-17.98 2.5,-17.58 1.05,-17.58 ; 1.05,-15.44 2.5,-15.44 2.5,-15.04 1.05,-15.04 ; 1.05,-12.9 2.5,-12.9 2.5,-12.5 1.05,-12.5 ; 1.05,-10.36 2.5,-10.36 2.5,-9.96 1.05,-9.96 ; 1.05,-7.82 2.5,-7.82 2.5,-7.42 1.05,-7.42 ; 1.05,-5.28 2.5,-5.28 2.5,-4.88 1.05,-4.88 ; 1.05,-2.74 2.5,-2.74 2.5,-2.34 1.05,-2.34 ; 1.05,-0.2 2.5,-0.2 2.5,0.2 1.05,0.2 ; 1.05,2.34 2.5,2.34 2.5,2.74 1.05,2.74 ; 1.05,4.88 2.5,4.88 2.5,5.28 1.05,5.28 ; 1.05,7.42 2.5,7.42 2.5,7.82 1.05,7.82 ; 1.05,9.96 2.5,9.96 2.5,10.36 1.05,10.36 ; 1.05,12.5 2.5,12.5 2.5,12.9 1.05,12.9 ; 1.05,15.04 2.5,15.04 2.5,15.44 1.05,15.44 ; 1.05,17.58 2.5,17.58 2.5,17.98 1.05,17.98 ; 1.05,20.12 2.5,20.12 2.5,20.52 1.05,20.52 ; -1.05,21.79 -1.05,-22.225 1.05,-22.225 1.05,22.225 -0.615,22.225 -1.05,21.79
  text "'.Designator'" at 0.84,-4.047 h1
Top Courtyard:
  lines w0.254: -3.5,-22.73 3.5,-22.73 3.5,22.73 -3.5,22.73 -3.5,-22.73
Top Designator:
  text ".Designator" at -7.618,-0.508 h1.52

## PinHeader_1x35_P1.27mm_Vertical_SMD_Pin1Right [mm]
pads (35):
  rect 3x0.65 smd: 1(1.5,21.59) 2(-1.5,20.32) 3(1.5,19.05) 4(-1.5,17.78) 5(1.5,16.51) 6(-1.5,15.24) 7(1.5,13.97) 8(-1.5,12.7) 9(1.5,11.43) 10(-1.5,10.16) 11(1.5,8.89) 12(-1.5,7.62) 13(1.5,6.35) 14(-1.5,5.08) 15(1.5,3.81) 16(-1.5,2.54) 17(1.5,1.27) 18(-1.5,0) 19(1.5,-1.27) 20(-1.5,-2.54) 21(1.5,-3.81) 22(-1.5,-5.08) 23(1.5,-6.35) 24(-1.5,-7.62) 25(1.5,-8.89) 26(-1.5,-10.16) 27(1.5,-11.43) 28(-1.5,-12.7) 29(1.5,-13.97) 30(-1.5,-15.24) 31(1.5,-16.51) 32(-1.5,-17.78) 33(1.5,-19.05) 34(-1.5,-20.32) 35(1.5,-21.59)
F.SilkS:
  lines w0.254: -1.16,-22.225 -1.16,-22.335 ; -1.16,-20.955 -1.16,-22.335 ; -1.16,-19.685 -1.16,-18.415 ; -1.16,-17.145 -1.16,-15.875 ; -1.16,-14.605 -1.16,-13.335 ; -1.16,-12.065 -1.16,-10.795 ; -1.16,-9.525 -1.16,-8.255 ; -1.16,-6.985 -1.16,-5.715 ; -1.16,-4.445 -1.16,-3.175 ; -1.16,-1.905 -1.16,-0.635 ; -1.16,0.635 -1.16,1.905 ; -1.16,3.175 -1.16,4.445 ; -1.16,5.715 -1.16,6.985 ; -1.16,8.255 -1.16,9.525 ; -1.16,10.795 -1.16,12.065 ; -1.16,13.335 -1.16,14.605 ; -1.16,15.875 -1.16,17.145 ; -1.16,18.415 -1.16,19.685 ; -1.16,22.335 1.16,22.335 1.16,22.225 2.94,22.225 ; 1.16,-22.335 -1.16,-22.335 ; 1.16,-20.955 1.16,-19.685 ; 1.16,-18.415 1.16,-17.145 ; 1.16,-15.875 1.16,-14.605 ; 1.16,-13.335 1.16,-12.065 ; 1.16,-10.795 1.16,-9.525 ; 1.16,-8.255 1.16,-6.985 ; 1.16,-5.715 1.16,-4.445 ; 1.16,-3.175 1.16,-1.905 ; 1.16,-0.635 1.16,0.635 ; 1.16,1.905 1.16,3.175 ; 1.16,4.445 1.16,5.715 ; 1.16,6.985 1.16,8.255 ; 1.16,9.525 1.16,10.795 ; 1.16,12.065 1.16,13.335 ; 1.16,14.605 1.16,15.875 ; 1.16,17.145 1.16,18.415 ; 1.16,19.685 1.16,20.955 ; -1.16,20.955 -1.16,22.225 -1.16,20.955
Top Assembly:
  lines w0.254: -1.05,-20.52 -2.5,-20.52 -2.5,-20.12 -1.05,-20.12 ; -1.05,-17.98 -2.5,-17.98 -2.5,-17.58 -1.05,-17.58 ; -1.05,-15.44 -2.5,-15.44 -2.5,-15.04 -1.05,-15.04 ; -1.05,-12.9 -2.5,-12.9 -2.5,-12.5 -1.05,-12.5 ; -1.05,-10.36 -2.5,-10.36 -2.5,-9.96 -1.05,-9.96 ; -1.05,-7.82 -2.5,-7.82 -2.5,-7.42 -1.05,-7.42 ; -1.05,-5.28 -2.5,-5.28 -2.5,-4.88 -1.05,-4.88 ; -1.05,-2.74 -2.5,-2.74 -2.5,-2.34 -1.05,-2.34 ; -1.05,-0.2 -2.5,-0.2 -2.5,0.2 -1.05,0.2 ; -1.05,2.34 -2.5,2.34 -2.5,2.74 -1.05,2.74 ; -1.05,4.88 -2.5,4.88 -2.5,5.28 -1.05,5.28 ; -1.05,7.42 -2.5,7.42 -2.5,7.82 -1.05,7.82 ; -1.05,9.96 -2.5,9.96 -2.5,10.36 -1.05,10.36 ; -1.05,12.5 -2.5,12.5 -2.5,12.9 -1.05,12.9 ; -1.05,15.04 -2.5,15.04 -2.5,15.44 -1.05,15.44 ; -1.05,17.58 -2.5,17.58 -2.5,17.98 -1.05,17.98 ; -1.05,20.12 -2.5,20.12 -2.5,20.52 -1.05,20.52 ; 1.05,-21.79 2.5,-21.79 2.5,-21.39 1.05,-21.39 ; 1.05,-19.25 2.5,-19.25 2.5,-18.85 1.05,-18.85 ; 1.05,-16.71 2.5,-16.71 2.5,-16.31 1.05,-16.31 ; 1.05,-14.17 2.5,-14.17 2.5,-13.77 1.05,-13.77 ; 1.05,-11.63 2.5,-11.63 2.5,-11.23 1.05,-11.23 ; 1.05,-9.09 2.5,-9.09 2.5,-8.69 1.05,-8.69 ; 1.05,-6.55 2.5,-6.55 2.5,-6.15 1.05,-6.15 ; 1.05,-4.01 2.5,-4.01 2.5,-3.61 1.05,-3.61 ; 1.05,-1.47 2.5,-1.47 2.5,-1.07 1.05,-1.07 ; 1.05,1.07 2.5,1.07 2.5,1.47 1.05,1.47 ; 1.05,3.61 2.5,3.61 2.5,4.01 1.05,4.01 ; 1.05,6.15 2.5,6.15 2.5,6.55 1.05,6.55 ; 1.05,8.69 2.5,8.69 2.5,9.09 1.05,9.09 ; 1.05,11.23 2.5,11.23 2.5,11.63 1.05,11.63 ; 1.05,13.77 2.5,13.77 2.5,14.17 1.05,14.17 ; 1.05,16.31 2.5,16.31 2.5,16.71 1.05,16.71 ; 1.05,18.85 2.5,18.85 2.5,19.25 1.05,19.25 ; 1.05,21.39 2.5,21.39 2.5,21.79 1.05,21.79 ; 1.05,21.79 1.05,-22.225 -1.05,-22.225 -1.05,22.225 0.615,22.225 1.05,21.79
  text "'.Designator'" at 0.84,-4.047 h1
Top Courtyard:
  lines w0.254: -3.5,-22.73 3.5,-22.73 3.5,22.73 -3.5,22.73 -3.5,-22.73
Top Designator:
  text ".Designator" at -7.618,-0.508 h1.52

## PinHeader_1x36_P1.27mm_Horizontal [mm]
pads (36):
  rect 1x1 hole 0.65: 1(0,0)
  round 1 hole 0.65: 2(0,-1.27) 3(0,-2.54) 4(0,-3.81) 5(0,-5.08) 6(0,-6.35) 7(0,-7.62) 8(0,-8.89) 9(0,-10.16) 10(0,-11.43) 11(0,-12.7) 12(0,-13.97) 13(0,-15.24) 14(0,-16.51) 15(0,-17.78) 16(0,-19.05) 17(0,-20.32) 18(0,-21.59) 19(0,-22.86) 20(0,-24.13) 21(0,-25.4) 22(0,-26.67) 23(0,-27.94) 24(0,-29.21) 25(0,-30.48) 26(0,-31.75) 27(0,-33.02) 28(0,-34.29) 29(0,-35.56) 30(0,-36.83) 31(0,-38.1) 32(0,-39.37) 33(0,-40.64) 34(0,-41.91) 35(0,-43.18) 36(0,-44.45)
F.SilkS:
  lines w0.254: -0.81,0 -0.81,0.81 0,0.81 ; 0.39,-45.195 1.61,-45.195 1.61,0.745 0.39,0.745 ; 0.503,-43.815 1.61,-43.815 ; 0.503,-42.545 1.61,-42.545 ; 0.503,-41.275 1.61,-41.275 ; 0.503,-40.005 1.61,-40.005 ; 0.503,-38.735 1.61,-38.735 ; 0.503,-37.465 1.61,-37.465 ; 0.503,-36.195 1.61,-36.195 ; 0.503,-34.925 1.61,-34.925 ; 0.503,-33.655 1.61,-33.655 ; 0.503,-32.385 1.61,-32.385 ; 0.503,-31.115 1.61,-31.115 ; 0.503,-29.845 1.61,-29.845 ; 0.503,-28.575 1.61,-28.575 ; 0.503,-27.305 1.61,-27.305 ; 0.503,-26.035 1.61,-26.035 ; 0.503,-24.765 1.61,-24.765 ; 0.503,-23.495 1.61,-23.495 ; 0.503,-22.225 1.61,-22.225 ; 0.503,-20.955 1.61,-20.955 ; 0.503,-19.685 1.61,-19.685 ; 0.503,-18.415 1.61,-18.415 ; 0.503,-17.145 1.61,-17.145 ; 0.503,-15.875 1.61,-15.875 ; 0.503,-14.605 1.61,-14.605 ; 0.503,-13.335 1.61,-13.335 ; 0.503,-12.065 1.61,-12.065 ; 0.503,-10.795 1.61,-10.795 ; 0.503,-9.525 1.61,-9.525 ; 0.503,-8.255 1.61,-8.255 ; 0.503,-6.985 1.61,-6.985 ; 0.503,-5.715 1.61,-5.715 ; 0.503,-4.445 1.61,-4.445 ; 0.503,-3.175 1.61,-3.175 ; 0.503,-1.905 1.61,-1.905 ; 0.81,-0.635 1.61,-0.635 ; 1.61,-44.76 5.61,-44.76 5.61,-44.14 1.61,-44.14 ; 1.61,-43.49 5.61,-43.49 5.61,-42.87 1.61,-42.87 ; 1.61,-42.22 5.61,-42.22 5.61,-41.6 1.61,-41.6 ; 1.61,-40.95 5.61,-40.95 5.61,-40.33 1.61,-40.33 ; 1.61,-39.68 5.61,-39.68 5.61,-39.06 1.61,-39.06 ; 1.61,-38.41 5.61,-38.41 5.61,-37.79 1.61,-37.79 ; 1.61,-37.14 5.61,-37.14 5.61,-36.52 1.61,-36.52 ; 1.61,-35.87 5.61,-35.87 5.61,-35.25 1.61,-35.25 ; 1.61,-34.6 5.61,-34.6 5.61,-33.98 1.61,-33.98 ; 1.61,-33.33 5.61,-33.33 5.61,-32.71 1.61,-32.71 ; 1.61,-32.06 5.61,-32.06 5.61,-31.44 1.61,-31.44 ; 1.61,-30.79 5.61,-30.79 5.61,-30.17 1.61,-30.17 ; 1.61,-29.52 5.61,-29.52 5.61,-28.9 1.61,-28.9 ; 1.61,-28.25 5.61,-28.25 5.61,-27.63 1.61,-27.63 ; 1.61,-26.98 5.61,-26.98 5.61,-26.36 1.61,-26.36 ; 1.61,-25.71 5.61,-25.71 5.61,-25.09 1.61,-25.09 ; 1.61,-24.44 5.61,-24.44 5.61,-23.82 1.61,-23.82 ; 1.61,-23.17 5.61,-23.17 5.61,-22.55 1.61,-22.55 ; 1.61,-21.9 5.61,-21.9 5.61,-21.28 1.61,-21.28 ; 1.61,-20.63 5.61,-20.63 5.61,-20.01 1.61,-20.01 ; 1.61,-19.36 5.61,-19.36 5.61,-18.74 1.61,-18.74 ; 1.61,-18.09 5.61,-18.09 5.61,-17.47 1.61,-17.47 ; 1.61,-16.82 5.61,-16.82 5.61,-16.2 1.61,-16.2 ; 1.61,-15.55 5.61,-15.55 5.61,-14.93 1.61,-14.93 ; 1.61,-14.28 5.61,-14.28 5.61,-13.66 1.61,-13.66 ; 1.61,-13.01 5.61,-13.01 5.61,-12.39 1.61,-12.39 ; 1.61,-11.74 5.61,-11.74 5.61,-11.12 1.61,-11.12 ; 1.61,-10.47 5.61,-10.47 5.61,-9.85 1.61,-9.85 ; 1.61,-9.2 5.61,-9.2 5.61,-8.58 1.61,-8.58 ; 1.61,-7.93 5.61,-7.93 5.61,-7.31 1.61,-7.31 ; 1.61,-6.66 5.61,-6.66 5.61,-6.04 1.61,-6.04 ; 1.61,-5.39 5.61,-5.39 5.61,-4.77 1.61,-4.77 ; 1.61,-4.12 5.61,-4.12 5.61,-3.5 1.61,-3.5 ; 1.61,-2.85 5.61,-2.85 5.61,-2.23 1.61,-2.23 ; 1.61,-1.58 5.61,-1.58 5.61,-0.96 1.61,-0.96 ; 1.61,-0.31 5.61,-0.31 5.61,0.31 1.61,0.31 1.61,-0.31
Top Assembly:
  drawing of 221 lines, arcs and shapes, not listed
  text "'.Designator'" at 1.504,-24.653 h0.6
Top Courtyard:
  lines w0.254: -1.14,-45.59 6,-45.59 6,1.14 -1.14,1.14 -1.14,-45.59
Top Designator:
  text ".Designator" at -5.188,-22.733 h1.52

## PinHeader_1x36_P1.27mm_Vertical [mm]
pads (36):
  rect 1x1 hole 0.65: 1(0,0)
  round 1 hole 0.65: 2(0,-1.27) 3(0,-2.54) 4(0,-3.81) 5(0,-5.08) 6(0,-6.35) 7(0,-7.62) 8(0,-8.89) 9(0,-10.16) 10(0,-11.43) 11(0,-12.7) 12(0,-13.97) 13(0,-15.24) 14(0,-16.51) 15(0,-17.78) 16(0,-19.05) 17(0,-20.32) 18(0,-21.59) 19(0,-22.86) 20(0,-24.13) 21(0,-25.4) 22(0,-26.67) 23(0,-27.94) 24(0,-29.21) 25(0,-30.48) 26(0,-31.75) 27(0,-33.02) 28(0,-34.29) 29(0,-35.56) 30(0,-36.83) 31(0,-38.1) 32(0,-39.37) 33(0,-40.64) 34(0,-41.91) 35(0,-43.18) 36(0,-44.45)
F.SilkS:
  lines w0.254: -1.16,0 -1.16,0.81 0,0.81 ; -0.667,-0.81 -1.16,-0.81 -1.16,-45.195 -0.318,-45.195 ; 0.318,-45.195 1.16,-45.195 1.16,-0.81 0.667,-0.81
Top Assembly:
  lines w0.254: -1.05,-45.085 1.05,-45.085 1.05,0.635 -0.525,0.635 -1.05,0.11 -1.05,-45.085
  text "'.Designator'" at 0.84,-26.272 h1
Top Courtyard:
  lines w0.254: -1.55,-45.59 1.55,-45.59 1.55,1.14 -1.55,1.14 -1.55,-45.59
Top Designator:
  text ".Designator" at -7.618,-22.733 h1.52

## PinHeader_1x36_P1.27mm_Vertical_SMD_Pin1Left [mm]
pads (36):
  rect 3x0.65 smd: 1(-1.5,22.225) 2(1.5,20.955) 3(-1.5,19.685) 4(1.5,18.415) 5(-1.5,17.145) 6(1.5,15.875) 7(-1.5,14.605) 8(1.5,13.335) 9(-1.5,12.065) 10(1.5,10.795) 11(-1.5,9.525) 12(1.5,8.255) 13(-1.5,6.985) 14(1.5,5.715) 15(-1.5,4.445) 16(1.5,3.175) 17(-1.5,1.905) 18(1.5,0.635) 19(-1.5,-0.635) 20(1.5,-1.905) 21(-1.5,-3.175) 22(1.5,-4.445) 23(-1.5,-5.715) 24(1.5,-6.985) 25(-1.5,-8.255) 26(1.5,-9.525) 27(-1.5,-10.795) 28(1.5,-12.065) 29(-1.5,-13.335) 30(1.5,-14.605) 31(-1.5,-15.875) 32(1.5,-17.145) 33(-1.5,-18.415) 34(1.5,-19.685) 35(-1.5,-20.955) 36(1.5,-22.225)
F.SilkS:
  lines w0.254: -2.94,22.86 -1.16,22.86 -1.16,22.97 1.16,22.97 ; -1.16,-21.59 -1.16,-22.97 1.16,-22.97 1.16,-22.86 ; -1.16,-20.32 -1.16,-19.05 ; -1.16,-17.78 -1.16,-16.51 ; -1.16,-15.24 -1.16,-13.97 ; -1.16,-12.7 -1.16,-11.43 ; -1.16,-10.16 -1.16,-8.89 ; -1.16,-7.62 -1.16,-6.35 ; -1.16,-5.08 -1.16,-3.81 ; -1.16,-2.54 -1.16,-1.27 ; -1.16,0 -1.16,1.27 ; -1.16,2.54 -1.16,3.81 ; -1.16,5.08 -1.16,6.35 ; -1.16,7.62 -1.16,8.89 ; -1.16,10.16 -1.16,11.43 ; -1.16,12.7 -1.16,13.97 ; -1.16,15.24 -1.16,16.51 ; -1.16,17.78 -1.16,19.05 ; -1.16,20.32 -1.16,21.59 ; 1.16,-21.59 1.16,-20.32 ; 1.16,-19.05 1.16,-17.78 ; 1.16,-16.51 1.16,-15.24 ; 1.16,-13.97 1.16,-12.7 ; 1.16,-11.43 1.16,-10.16 ; 1.16,-8.89 1.16,-7.62 ; 1.16,-6.35 1.16,-5.08 ; 1.16,-3.81 1.16,-2.54 ; 1.16,-1.27 1.16,0 ; 1.16,1.27 1.16,2.54 ; 1.16,3.81 1.16,5.08 ; 1.16,6.35 1.16,7.62 ; 1.16,8.89 1.16,10.16 ; 1.16,11.43 1.16,12.7 ; 1.16,13.97 1.16,15.24 ; 1.16,16.51 1.16,17.78 ; 1.16,19.05 1.16,20.32 ; 1.16,21.59 1.16,22.86
Top Assembly:
  lines w0.254: -1.05,-21.155 -2.5,-21.155 -2.5,-20.755 -1.05,-20.755 ; -1.05,-18.615 -2.5,-18.615 -2.5,-18.215 -1.05,-18.215 ; -1.05,-16.075 -2.5,-16.075 -2.5,-15.675 -1.05,-15.675 ; -1.05,-13.535 -2.5,-13.535 -2.5,-13.135 -1.05,-13.135 ; -1.05,-10.995 -2.5,-10.995 -2.5,-10.595 -1.05,-10.595 ; -1.05,-8.455 -2.5,-8.455 -2.5,-8.055 -1.05,-8.055 ; -1.05,-5.915 -2.5,-5.915 -2.5,-5.515 -1.05,-5.515 ; -1.05,-3.375 -2.5,-3.375 -2.5,-2.975 -1.05,-2.975 ; -1.05,-0.835 -2.5,-0.835 -2.5,-0.435 -1.05,-0.435 ; -1.05,1.705 -2.5,1.705 -2.5,2.105 -1.05,2.105 ; -1.05,4.245 -2.5,4.245 -2.5,4.645 -1.05,4.645 ; -1.05,6.785 -2.5,6.785 -2.5,7.185 -1.05,7.185 ; -1.05,9.325 -2.5,9.325 -2.5,9.725 -1.05,9.725 ; -1.05,11.865 -2.5,11.865 -2.5,12.265 -1.05,12.265 ; -1.05,14.405 -2.5,14.405 -2.5,14.805 -1.05,14.805 ; -1.05,16.945 -2.5,16.945 -2.5,17.345 -1.05,17.345 ; -1.05,19.485 -2.5,19.485 -2.5,19.885 -1.05,19.885 ; -1.05,22.025 -2.5,22.025 -2.5,22.425 -1.05,22.425 ; 1.05,-22.425 2.5,-22.425 2.5,-22.025 1.05,-22.025 ; 1.05,-19.885 2.5,-19.885 2.5,-19.485 1.05,-19.485 ; 1.05,-17.345 2.5,-17.345 2.5,-16.945 1.05,-16.945 ; 1.05,-14.805 2.5,-14.805 2.5,-14.405 1.05,-14.405 ; 1.05,-12.265 2.5,-12.265 2.5,-11.865 1.05,-11.865 ; 1.05,-9.725 2.5,-9.725 2.5,-9.325 1.05,-9.325 ; 1.05,-7.185 2.5,-7.185 2.5,-6.785 1.05,-6.785 ; 1.05,-4.645 2.5,-4.645 2.5,-4.245 1.05,-4.245 ; 1.05,-2.105 2.5,-2.105 2.5,-1.705 1.05,-1.705 ; 1.05,0.435 2.5,0.435 2.5,0.835 1.05,0.835 ; 1.05,2.975 2.5,2.975 2.5,3.375 1.05,3.375 ; 1.05,5.515 2.5,5.515 2.5,5.915 1.05,5.915 ; 1.05,8.055 2.5,8.055 2.5,8.455 1.05,8.455 ; 1.05,10.595 2.5,10.595 2.5,10.995 1.05,10.995 ; 1.05,13.135 2.5,13.135 2.5,13.535 1.05,13.535 ; 1.05,15.675 2.5,15.675 2.5,16.075 1.05,16.075 ; 1.05,18.215 2.5,18.215 2.5,18.615 1.05,18.615 ; 1.05,20.755 2.5,20.755 2.5,21.155 1.05,21.155 ; -1.05,22.425 -1.05,-22.86 1.05,-22.86 1.05,22.86 -0.615,22.86 -1.05,22.425
  text "'.Designator'" at 0.84,-4.047 h1
Top Courtyard:
  lines w0.254: -3.5,-23.36 3.5,-23.36 3.5,23.36 -3.5,23.36 -3.5,-23.36
Top Designator:
  text ".Designator" at -7.618,-0.508 h1.52

## PinHeader_1x36_P1.27mm_Vertical_SMD_Pin1Right [mm]
pads (36):
  rect 3x0.65 smd: 1(1.5,22.225) 2(-1.5,20.955) 3(1.5,19.685) 4(-1.5,18.415) 5(1.5,17.145) 6(-1.5,15.875) 7(1.5,14.605) 8(-1.5,13.335) 9(1.5,12.065) 10(-1.5,10.795) 11(1.5,9.525) 12(-1.5,8.255) 13(1.5,6.985) 14(-1.5,5.715) 15(1.5,4.445) 16(-1.5,3.175) 17(1.5,1.905) 18(-1.5,0.635) 19(1.5,-0.635) 20(-1.5,-1.905) 21(1.5,-3.175) 22(-1.5,-4.445) 23(1.5,-5.715) 24(-1.5,-6.985) 25(1.5,-8.255) 26(-1.5,-9.525) 27(1.5,-10.795) 28(-1.5,-12.065) 29(1.5,-13.335) 30(-1.5,-14.605) 31(1.5,-15.875) 32(-1.5,-17.145) 33(1.5,-18.415) 34(-1.5,-19.685) 35(1.5,-20.955) 36(-1.5,-22.225)
F.SilkS:
  lines w0.254: -1.16,-22.86 -1.16,-22.97 1.16,-22.97 1.16,-21.59 ; -1.16,-21.59 -1.16,-20.32 ; -1.16,-19.05 -1.16,-17.78 ; -1.16,-16.51 -1.16,-15.24 ; -1.16,-13.97 -1.16,-12.7 ; -1.16,-11.43 -1.16,-10.16 ; -1.16,-8.89 -1.16,-7.62 ; -1.16,-6.35 -1.16,-5.08 ; -1.16,-3.81 -1.16,-2.54 ; -1.16,-1.27 -1.16,0 ; -1.16,1.27 -1.16,2.54 ; -1.16,3.81 -1.16,5.08 ; -1.16,6.35 -1.16,7.62 ; -1.16,8.89 -1.16,10.16 ; -1.16,11.43 -1.16,12.7 ; -1.16,13.97 -1.16,15.24 ; -1.16,16.51 -1.16,17.78 ; -1.16,19.05 -1.16,20.32 ; -1.16,22.97 1.16,22.97 1.16,22.86 2.94,22.86 ; 1.16,-20.32 1.16,-19.05 ; 1.16,-17.78 1.16,-16.51 ; 1.16,-15.24 1.16,-13.97 ; 1.16,-12.7 1.16,-11.43 ; 1.16,-10.16 1.16,-8.89 ; 1.16,-7.62 1.16,-6.35 ; 1.16,-5.08 1.16,-3.81 ; 1.16,-2.54 1.16,-1.27 ; 1.16,0 1.16,1.27 ; 1.16,2.54 1.16,3.81 ; 1.16,5.08 1.16,6.35 ; 1.16,7.62 1.16,8.89 ; 1.16,10.16 1.16,11.43 ; 1.16,12.7 1.16,13.97 ; 1.16,15.24 1.16,16.51 ; 1.16,17.78 1.16,19.05 ; 1.16,20.32 1.16,21.59 ; -1.16,21.59 -1.16,22.86 -1.16,21.59
Top Assembly:
  lines w0.254: -1.05,-22.425 -2.5,-22.425 -2.5,-22.025 -1.05,-22.025 ; -1.05,-19.885 -2.5,-19.885 -2.5,-19.485 -1.05,-19.485 ; -1.05,-17.345 -2.5,-17.345 -2.5,-16.945 -1.05,-16.945 ; -1.05,-14.805 -2.5,-14.805 -2.5,-14.405 -1.05,-14.405 ; -1.05,-12.265 -2.5,-12.265 -2.5,-11.865 -1.05,-11.865 ; -1.05,-9.725 -2.5,-9.725 -2.5,-9.325 -1.05,-9.325 ; -1.05,-7.185 -2.5,-7.185 -2.5,-6.785 -1.05,-6.785 ; -1.05,-4.645 -2.5,-4.645 -2.5,-4.245 -1.05,-4.245 ; -1.05,-2.105 -2.5,-2.105 -2.5,-1.705 -1.05,-1.705 ; -1.05,0.435 -2.5,0.435 -2.5,0.835 -1.05,0.835 ; -1.05,2.975 -2.5,2.975 -2.5,3.375 -1.05,3.375 ; -1.05,5.515 -2.5,5.515 -2.5,5.915 -1.05,5.915 ; -1.05,8.055 -2.5,8.055 -2.5,8.455 -1.05,8.455 ; -1.05,10.595 -2.5,10.595 -2.5,10.995 -1.05,10.995 ; -1.05,13.135 -2.5,13.135 -2.5,13.535 -1.05,13.535 ; -1.05,15.675 -2.5,15.675 -2.5,16.075 -1.05,16.075 ; -1.05,18.215 -2.5,18.215 -2.5,18.615 -1.05,18.615 ; -1.05,20.755 -2.5,20.755 -2.5,21.155 -1.05,21.155 ; 1.05,-21.155 2.5,-21.155 2.5,-20.755 1.05,-20.755 ; 1.05,-18.615 2.5,-18.615 2.5,-18.215 1.05,-18.215 ; 1.05,-16.075 2.5,-16.075 2.5,-15.675 1.05,-15.675 ; 1.05,-13.535 2.5,-13.535 2.5,-13.135 1.05,-13.135 ; 1.05,-10.995 2.5,-10.995 2.5,-10.595 1.05,-10.595 ; 1.05,-8.455 2.5,-8.455 2.5,-8.055 1.05,-8.055 ; 1.05,-5.915 2.5,-5.915 2.5,-5.515 1.05,-5.515 ; 1.05,-3.375 2.5,-3.375 2.5,-2.975 1.05,-2.975 ; 1.05,-0.835 2.5,-0.835 2.5,-0.435 1.05,-0.435 ; 1.05,1.705 2.5,1.705 2.5,2.105 1.05,2.105 ; 1.05,4.245 2.5,4.245 2.5,4.645 1.05,4.645 ; 1.05,6.785 2.5,6.785 2.5,7.185 1.05,7.185 ; 1.05,9.325 2.5,9.325 2.5,9.725 1.05,9.725 ; 1.05,11.865 2.5,11.865 2.5,12.265 1.05,12.265 ; 1.05,14.405 2.5,14.405 2.5,14.805 1.05,14.805 ; 1.05,16.945 2.5,16.945 2.5,17.345 1.05,17.345 ; 1.05,19.485 2.5,19.485 2.5,19.885 1.05,19.885 ; 1.05,22.025 2.5,22.025 2.5,22.425 1.05,22.425 ; 1.05,22.425 1.05,-22.86 -1.05,-22.86 -1.05,22.86 0.615,22.86 1.05,22.425
  text "'.Designator'" at 0.84,-4.047 h1
Top Courtyard:
  lines w0.254: -3.5,-23.36 3.5,-23.36 3.5,23.36 -3.5,23.36 -3.5,-23.36
Top Designator:
  text ".Designator" at -7.618,-0.508 h1.52

## PinHeader_1x37_P1.27mm_Horizontal [mm]
pads (37):
  rect 1x1 hole 0.65: 1(0,0)
  round 1 hole 0.65: 2(0,-1.27) 3(0,-2.54) 4(0,-3.81) 5(0,-5.08) 6(0,-6.35) 7(0,-7.62) 8(0,-8.89) 9(0,-10.16) 10(0,-11.43) 11(0,-12.7) 12(0,-13.97) 13(0,-15.24) 14(0,-16.51) 15(0,-17.78) 16(0,-19.05) 17(0,-20.32) 18(0,-21.59) 19(0,-22.86) 20(0,-24.13) 21(0,-25.4) 22(0,-26.67) 23(0,-27.94) 24(0,-29.21) 25(0,-30.48) 26(0,-31.75) 27(0,-33.02) 28(0,-34.29) 29(0,-35.56) 30(0,-36.83) 31(0,-38.1) 32(0,-39.37) 33(0,-40.64) 34(0,-41.91) 35(0,-43.18) 36(0,-44.45) 37(0,-45.72)
F.SilkS:
  drawing of 153 lines, arcs and shapes, not listed
Top Assembly:
  drawing of 227 lines, arcs and shapes, not listed
  text "'.Designator'" at 1.504,-25.288 h0.6
Top Courtyard:
  lines w0.254: -1.14,-46.86 6,-46.86 6,1.14 -1.14,1.14 -1.14,-46.86
Top Designator:
  text ".Designator" at -5.188,-23.368 h1.52

## PinHeader_1x37_P1.27mm_Vertical [mm]
pads (37):
  rect 1x1 hole 0.65: 1(0,0)
  round 1 hole 0.65: 2(0,-1.27) 3(0,-2.54) 4(0,-3.81) 5(0,-5.08) 6(0,-6.35) 7(0,-7.62) 8(0,-8.89) 9(0,-10.16) 10(0,-11.43) 11(0,-12.7) 12(0,-13.97) 13(0,-15.24) 14(0,-16.51) 15(0,-17.78) 16(0,-19.05) 17(0,-20.32) 18(0,-21.59) 19(0,-22.86) 20(0,-24.13) 21(0,-25.4) 22(0,-26.67) 23(0,-27.94) 24(0,-29.21) 25(0,-30.48) 26(0,-31.75) 27(0,-33.02) 28(0,-34.29) 29(0,-35.56) 30(0,-36.83) 31(0,-38.1) 32(0,-39.37) 33(0,-40.64) 34(0,-41.91) 35(0,-43.18) 36(0,-44.45) 37(0,-45.72)
F.SilkS:
  lines w0.254: -1.16,0 -1.16,0.81 0,0.81 ; -0.667,-0.81 -1.16,-0.81 -1.16,-46.465 -0.318,-46.465 ; 0.318,-46.465 1.16,-46.465 1.16,-0.81 0.667,-0.81
Top Assembly:
  lines w0.254: -1.05,-46.355 1.05,-46.355 1.05,0.635 -0.525,0.635 -1.05,0.11 -1.05,-46.355
  text "'.Designator'" at 0.84,-26.907 h1
Top Courtyard:
  lines w0.254: -1.55,-46.86 1.55,-46.86 1.55,1.14 -1.55,1.14 -1.55,-46.86
Top Designator:
  text ".Designator" at -7.618,-23.368 h1.52